# Altium footprint library 0436500227.PcbLib: 1 footprints
Each footprint in its own frame and in the unit in brackets; x right, y up, seen from the top. Pads: shape width x height; smd on the part's side, far side on the other; paste and mask are expansions set on the pad; w line width, h text height; cw(c..) or ccw(c..) is an arc to the next point about the centre after c.
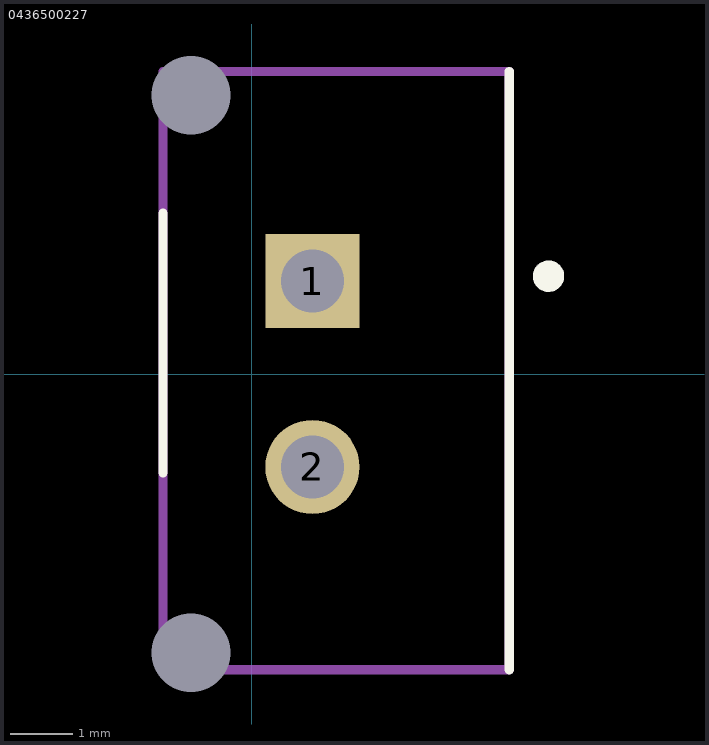
[diagram p0: the footprint, top view; thin cyan lines are the x and y axes]

## 0436500227 [mm]
pads (4):
  rect 1.52x1.52 hole 1.02 mask+0.051: 1(0.98,1.5)
  round 1.52 hole 1.02 mask+0.051: 2(0.98,-1.5)
  round 0 hole 1.27 mask+0: MOUNT1(-0.98,4.5) MOUNT2(-0.98,-4.5)
Top Overlay:
  circle w0.254: c4.79,1.579 r0.127
  lines w0.15: -1.433,-1.596 -1.433,2.595 ; 4.155,0.563 4.155,-4.771 4.155,4.881
Mechanical 13:
  lines w0.15: -1.433,-4.771 -1.433,4.881 4.155,4.881 4.155,-4.771 -1.433,-4.771
3D body "436500227.stp": height 9.91, standoff -3.17, extent -1.49,-4.825 4.115,4.825